# Altium integrated library ULN2003A.IntLib: 1 symbol
Pins are listed as number, name and electrical type; pins without a type are passive.

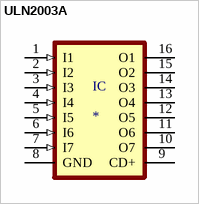
[diagram p0: symbol ULN2003A]

## ULN2003A
designator IC
Bipolar _BJT_ Transistor Array 7 NPN Darlington 50V 500mA Through Hole 16-DIP; MP: ULN2003A; MF: STMicroelectronics; Price: None; Package: DIP-16 STMicroelectronics; Value: *; Availability: Unavailable; SnapEDA_Link: https://www.snapeda.com/parts/ULN2003A/STMicroelectronics/view-part/4503171/?ref=snap
footprint DIL16
pins: 1 I1 (in), 2 I2 (in), 3 I3 (in), 4 I4 (in), 5 I5 (in), 6 I6 (in), 7 I7 (in), 8 GND (power), 9 CD+, 10 O7 (oc), 11 O6 (oc), 12 O5 (oc), 13 O4 (oc), 14 O3 (oc), 15 O2 (oc), 16 O1 (oc)